# Altium schematic symbol library Oscillators.SchLib: 10 symbols
Pins are listed as number, name and electrical type; pins without a type are passive.

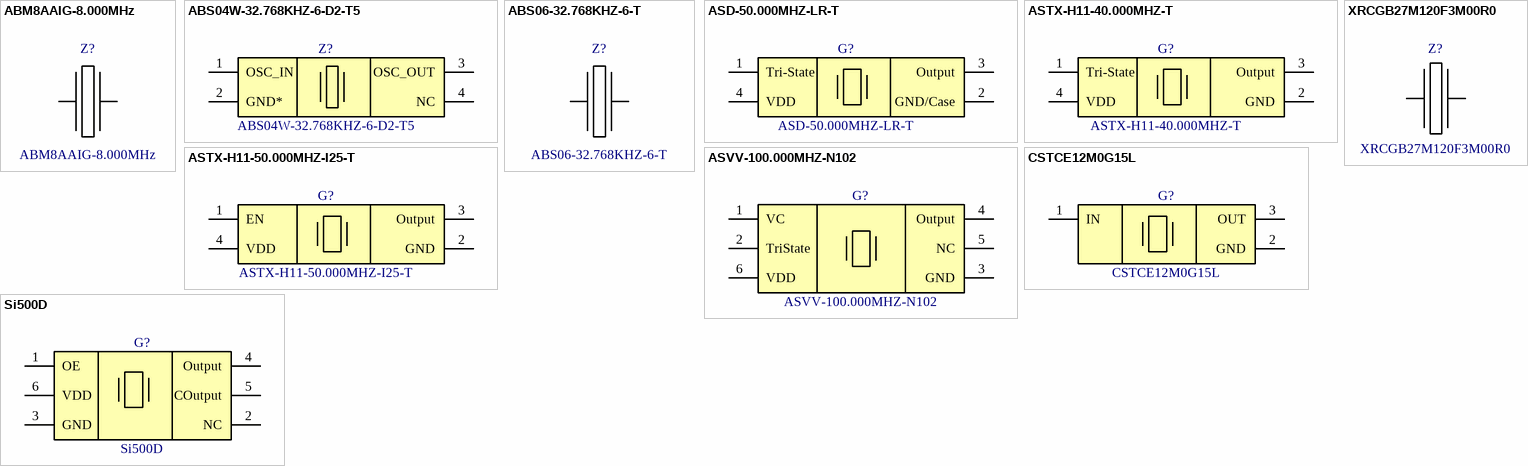
[diagram p0: symbols ABM8AAIG-8.000MHz to XRCGB27M120F3M00R0]

## ABM8AAIG-8.000MHz
designator Z?
Crystal 8Mhz 8Pf; Manufacturer: Abracon; PartNumber: ABM8AAIG-8.000MHz; ComponentLink1Description: Product Page; ComponentLink1URL: https://abracon.com/parametric/crystals/ABM8AAIG-8.000MHz; ComponentLink2Description: DataSheet; ComponentLink2URL: https://abracon.com/datasheets/ABM8AAIG.pdf
footprint ABRACON ABM8AAIG (Abracon ABM8AAIG Oscillator Chip 3.20 x 2.50 x 0.90 mm)
pins: 1, 2

## ABS04W-32.768KHZ-6-D2-T5
designator Z?
Crystal 0.032768MHz ±20ppm (Tol) -200ppm/1ppm (Stability) 6pF FUND 130000Ohm 4-Pin SMD T/R; Manufacturer: Abracon; PartNumber: ABS04W-32.768KHZ-6-D2-T5; ComponentLink1Description: Product Page; ComponentLink1URL: https://abracon.com/parametric/crystals/ABS04W-32.768KHZ-6-D2-T5; ComponentLink2Description: DataSheet; ComponentLink2URL: https://abracon.com/datasheets/ABS04W.pdf
footprint ABRACON ABS04W (Abracon ABS04W Oscillator Chip 1.20 x 1.00 x 0.35 mm)
pins: 1 OSC_IN, 2 GND*, 3 OSC_OUT, 4 NC

## ABS06-32.768KHZ-6-T
designator Z?
Crystal 32.7680Khz 6Pf Smd/Tape & Reel (Tr) Rohs Compliant: Yes |Abracon ABS06-32.768KHZ-6-T; PartNumber: ABS06-32.768KHZ-6-T; Manufacturer: Abracon; ComponentLink1Description: Product Page; ComponentLink1URL: https://abracon.com/parametric/crystals/ABS06-32.768KHZ-6-T; ComponentLink2Description: DataSheet; ComponentLink2URL: https://abracon.com/Resonators/ABS06.pdf
footprint ABRACON ABS06 (Abracon ABS06 Oscillator Chip 2.00 x 1.20 x 0.60 mm)
pins: 1, 2

## ASD-50.000MHZ-LR-T
designator G?
Crystal Oscillator 50MHz 1.8V 15pF 4-Pin SMD T/R; Manufacturer: Abracon; PartNumber: ASD-50.000MHZ-LR-T; ComponentLink1Description: Product Page; ComponentLink1URL: https://abracon.com/parametric/oscillators/ASD-50.000MHZ-LC-T; ComponentLink2Description: DataSheet; ComponentLink2URL: https://abracon.com/Oscillators/ASDseries.pdf
footprint ABRACON ASD (Abracon ASD Oscillator Chip 2.00 x 2.50 x 1.00 mm)
pins: 1 Tri-State, 2 GND/Case, 3 Output, 4 VDD

## ASTX-H11-40.000MHZ-T
designator G?
Crystal Oscillator 40MHz 3.3V 6ppm 4-Pin SMD; Manufacturer: Abracon; PartNumber: ASTX-H11-40.000MHZ-T; ComponentLink1Description: Product Page; ComponentLink1URL: https://abracon.com/parametric/oscillators/ASTX-H11-40.000MHZ-T; ComponentLink2Description: DataSheet; ComponentLink2URL: https://abracon.com/Oscillators/ASTX-H11.pdf
footprint OSCCC320X250X110L75X100N (Oscillator, Corner Concave; 3.20 mm L X 2.50 mm W X 1.10 mm H body)
pins: 1 Tri-State, 2 GND, 3 Output, 4 VDD

## ASTX-H11-50.000MHZ-I25-T
designator G?
Crystal Oscillator 40MHz 3.3V 6ppm 4-Pin SMD; Manufacturer: Abracon; PartNumber: ASTX-H11-50.000MHZ-I25-T; ComponentLink1Description: Product Page; ComponentLink1URL: https://abracon.com/parametric/oscillators/ASTX-H11-50.000MHZ-I25-T; ComponentLink2Description: DataSheet; ComponentLink2URL: https://abracon.com/Oscillators/ASTX-H11.pdf
footprint OSCCC320X250X110L75X100N (Oscillator, Corner Concave; 3.20 mm L X 2.50 mm W X 1.10 mm H body)
pins: 1 EN, 2 GND, 3 Output, 4 VDD

## ASVV-100.000MHZ-N102
designator G?
CMOS/TTL COMPATIBLE VOLTAGE CONTROLLED CRYSTAL OSCILLATOR; Manufacturer: Abracon; OscFreq: 100 MHz; OscFreqStability: ±50 ppm; OscOutput: CMOS; OscTemp: 0 to 70 °C; PartNumber: ASVV-100.000MHZ-N102; ComponentLink1Description: Product Page; ComponentLink1URL: https://abracon.com/parametric/oscillators/ASVV-100.000MHZ-N102; ComponentLink2Description: DataSheet; ComponentLink2URL: https://abracon.com/Oscillators/ASVV.pdf
footprint ABRACON ASVV (Abracon ASVV Oscillator Chip 7.0 x 5.0 x 2.0 mm)
pins: 1 VC, 2 TriState, 3 GND, 4 Output, 5 NC, 6 VDD

## CSTCE12M0G15L
designator G?
12MHz Piezoelectric Ceramic Resonator; Manufacturer: Murata; PartNumber: CSTCE12M0G15L; ComponentLink1Description: Product Page; ComponentLink1URL: https://www.murata.com/en-global/products/productdetail?cate=cgsubResonators&partno=CSTNE12M0G55Z000R0
footprint Murata 3-T_320X130X70 (Murata 3-Terminal 3.2X1.3X0.7)
pins: 1 IN, 2 GND, 3 OUT

## Si500D
designator G?
Si500D series Differential output silicon oscillator; Manufacturer: Silicon Labs; PartNumber: Si500D
footprint Si500D (Si500D 3.2 x 5.0 mm XOs)
pins: 1 OE, 2 NC, 3 GND, 4 Output, 5 COutput, 6 VDD

## XRCGB27M120F3M00R0
designator Z?
Resonator Frequency: 27.1200MHz / Size: 2.0 x 1.6mm; Manufacturer: Murata; PartNumber: XRCGB27M120F3M00R0; ComponentLink1Description: Product Page; ComponentLink1URL: https://www.murata.com/en-eu/products/productdetail?partno=XRCGB27M120F3M00R0; ComponentLink2Description: DataSheet; ComponentLink2URL: https://www.murata.com/products/productdata/8801078116382/SPEC-XRCGB27M120F3M00R0.pdf?1541043011000
footprint MURATA HCR2016 (Size: 2.0 x 1.6mm)
pins: 1, 3